# Altium schematic symbol library SG-210STF_16.0000ML0.SchLib: 1 symbol
Pins are listed as number, name and electrical type; pins without a type are passive.

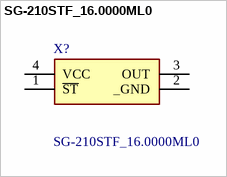
[diagram p0: symbol SG-210STF_16.0000ML0]

## SG-210STF_16.0000ML0
designator X?
Standard Clock Oscillators SG-210STF 16.0000ML0: SMD XTAL OSC MHZ +/-50PPM -40-85C 1K TR; Manufacturer_Name: Epson Timing; Geometry.Height: 0.9mm; Mouser Part Number: 732-SG-210STF16ML0; Mouser Price/Stock: https://www.mouser.co.uk/ProductDetail/Epson-Timing/SG-210STF-16.0000ML0?qs=MyNHzdoqoQIOzqs41oAYSA%3D%3D; Manufacturer_Part_Number: SG-210STF 16.0000ML0; Datasheet Link: https://support.epson.biz/td/api/doc_check.php?dl=brief_SG-210STF_en.pdf
footprint SG210STF160000ML0
pins: 1 ~{ST}, 2 _GND, 3 OUT, 4 VCC